# Altium footprint library Footprints.PcbLib: 8 footprints
Each footprint in its own frame and in the unit in brackets; x right, y up, seen from the top. Pads: shape width x height; smd on the part's side, far side on the other; paste and mask are expansions set on the pad; w line width, h text height; cw(c..) or ccw(c..) is an arc to the next point about the centre after c.
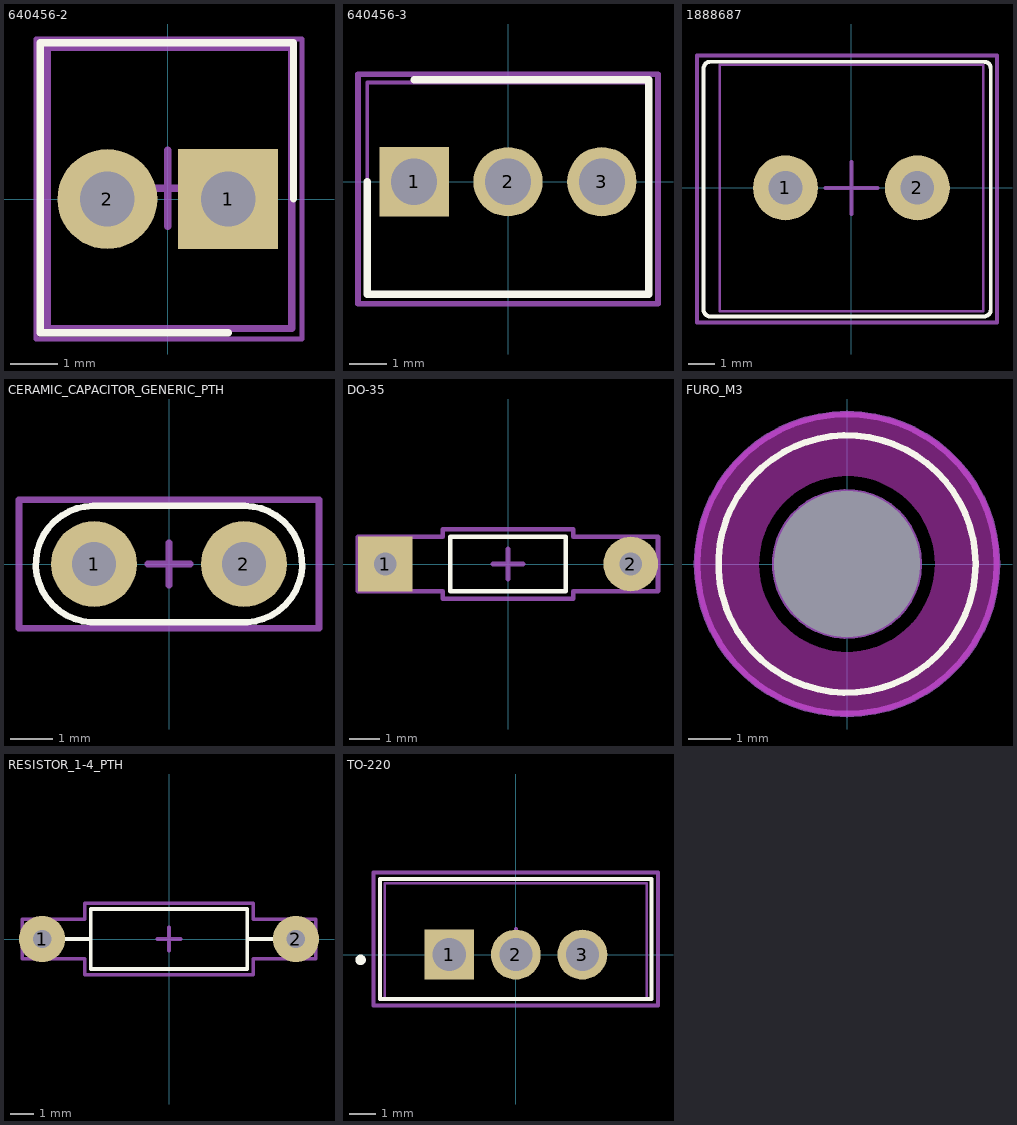
[diagram p0: the footprints below, top view; thin cyan lines are the x and y axes]

## 640456-2 [mm]
pads (2):
  rect 2.1x2.1 hole 1.15: 1(1.27,0)
  round 2.1 hole 1.15: 2(-1.27,0)
Top Overlay:
  lines w0.152: 1.27,-2.812 -2.682,-2.812 -2.682,3.287 2.642,3.287 2.642,0
Top Assembly:
  lines w0.1: -2.768,-2.943 2.821,-2.943 2.821,3.365 -2.768,3.365 -2.768,-2.943
  text ".Designator" at -2.25,0 h1
Top Courtyard (Mech15):
  lines w0.152: -2.535,-2.725 2.607,-2.725 2.607,3.191 -2.535,3.191 -2.535,-2.725
Top Component Center:
  lines w0.152: -0.804,0.226 0.002,0.226 ; 0.002,-0.579 0.002,0.226 ; 0.002,1.032 0.002,0.226 ; 0.808,0.226 0.002,0.226
3D body "640456-2 v1.step": height 10.05, standoff -3.54, extent -2.54,-2.667 2.54,3.175

## 640456-3 [mm]
pads (3):
  rect 1.875x1.875 hole 1.25: 1(-2.54,0)
  round 1.875 hole 1.25: 2(0,0) 3(2.54,0)
Top Overlay:
  lines w0.2: -3.81,0 -3.81,-3.048 3.81,-3.048 3.81,2.76 -2.54,2.76
Top Assembly:
  lines w0.1: -3.81,-3.048 3.81,-3.048 3.81,2.687 -3.81,2.687 -3.81,-3.048
  text ".Designator" at -2.252,-0.546 h1
Top Courtyard (Mech15):
  lines w0.152: -4.06,-3.298 -4.06,2.906 4.06,2.906 4.06,-3.298 -4.06,-3.298
Top Component Center:
  lines w0.152: -0.5,-0.32 0.5,-0.32 ; 0,-0.82 0,0.18
3D body "640456-3 v1.step": height 10.07, standoff -3.52, extent -3.81,-3.175 3.81,2.667

## 1888687 [mm]
pads (2):
  round 2.5 hole 1.3: 1(-2.54,0) 2(2.54,0)
Top Overlay:
  lines w0.152: -5.693,-4.698 ccw(c-5.439,-4.698) -5.439,-4.952 5.115,-4.952 ccw(c5.115,-4.698) 5.369,-4.698 5.369,4.605 ccw(c5.115,4.605) 5.115,4.859 -5.439,4.859 ccw(c-5.439,4.605) -5.693,4.605 -5.693,-4.698
Top Assembly:
  lines w0.1: -5.08,-4.75 5.08,-4.75 5.08,4.75 -5.08,4.75 -5.08,-4.75
  text ".Designator" at -2.252,-0.226 h1
Top Courtyard (Mech15):
  lines w0.152: -5.949,-5.191 5.609,-5.191 5.609,5.102 -5.949,5.102 -5.949,-5.191
Top Component Center:
  lines w0.152: -1,0 1,0 ; 0,-1 0,1
3D body "pxc_1888687_03_02_MKDSN-2-5-2-5-08_3D.stp": height 15.01, standoff -3.49, extent -5.655,-4.75 5.325,4.78

## CERAMIC_CAPACITOR_GENERIC_PTH [mm]
pads (2):
  round 2 hole 1.02: 1(-1.75,0) 2(1.75,0)
Top Overlay:
  lines w0.152: -1.822,-1.356 cw(c-1.75,0) -1.767,1.358 1.767,1.358 cw(c1.75,0) 1.822,-1.356 -1.822,-1.356
Top Assembly:
  lines w0.1: -1.822,-1.356 cw(c-1.75,0) -1.767,1.358 1.767,1.358 cw(c1.75,0) 1.822,-1.356 -1.822,-1.356
  text ".Designator" at -2.252,-0.226 h1
Top Courtyard (Mech15):
  lines w0.152: -3.5,-1.5 3.5,-1.5 3.5,1.5 -3.5,1.5 -3.5,-1.5
Top Component Center:
  lines w0.152: -0.5,0 0.5,0 ; 0,0 0,-0.5 0,0.5
3D body "10nF capacitor ceramico v4.step": height 6.49, standoff -3, extent -2.475,-1 2.474,1

## DO-35 [mm]
pads (2):
  rect 1.8x1.8 hole 0.75: 1(-4.05,0)
  round 1.8 hole 0.75: 2(4.05,0)
Top Overlay:
  lines w0.152: -1.9,-0.9 -1.9,0.9 1.9,0.9 1.9,-0.9 -1.9,-0.9
Top Assembly:
  lines w0.1: -4.95,-0.9 -2.15,-0.9 -2.15,-1.15 2.15,-1.15 2.15,-0.9 4.95,-0.9 4.95,0.9 2.15,0.9 2.15,1.15 -2.15,1.15 -2.15,0.9 -4.95,0.9 -4.95,-0.9
  text ".Designator" at -2.252,-0.226 h1
Top Courtyard (Mech15):
  lines w0.152: -4.95,-0.9 -2.15,-0.9 -2.15,-1.15 2.15,-1.15 2.15,-0.9 4.95,-0.9 4.95,0.9 2.15,0.9 2.15,1.15 -2.15,1.15 -2.15,0.9 -4.95,0.9 -4.95,-0.9
Top Component Center:
  lines w0.152: -0.5,0 0.5,0 ; 0,-0.5 0,0.5
3D body "DO-35 v1.step": height 2.05, standoff -2.63, extent -4.302,-0.993 4.302,0.993

## FURO_M3 [mm]
pads (1):
  round 0 hole 3.4 unplated mask+0.1: 4(0,0)
Top Layer keep-out:
  lines w1.5: 2.64,-0.932 cw(c0,0) 2.679,-0.815
Top Overlay:
  circle w0.152: c0,0 r3
Top Assembly:
  circle w0.1: c0,0 r1.7
  text ".Designator" at -2.252,-0.226 h1
Top Courtyard (Mech15):
  circle w0.152: c0,0 r3.5
Top Component Center:
  lines w0.152: -0.5,0 0.5,0 ; 0,-0.5 0,0.5

## RESISTOR_1-4_PTH [mm]
pads (2):
  round 2 hole 0.8: 1(-5.5,0) 2(5.5,0)
Top Overlay:
  lines w0.152: -4.58,0 -3.4,0 ; 4.58,0 3.4,0 ; -3.4,0 -3.4,1.3 3.4,1.3 3.4,0 ; -3.4,0 -3.4,-1.3 3.4,-1.3 3.4,0
Top Assembly:
  lines w0.1: -4.9,0 -3.4,0 ; 4.9,0 3.4,0 ; -3.4,0 -3.4,1.3 3.4,1.3 3.4,0 ; -3.4,0 -3.4,-1.3 3.4,-1.3 3.4,0
  text ".Designator" at -2.252,-0.226 h1
Top Courtyard (Mech15):
  lines w0.152: -6.35,-0.85 -3.65,-0.85 -3.65,-1.55 3.65,-1.55 3.65,-0.85 6.35,-0.85 6.35,0.85 3.65,0.85 3.65,1.55 -3.65,1.55 -3.65,0.85 -6.35,0.85 -6.35,-0.85
Top Component Center:
  lines w0.152: -0.5,0 0.5,0 0,0 ; 0,-0.5 0,0 ; 0,0.5 0,0
3D body "1-4-PTH v1.step": height 2.52, standoff -4.22, extent -5.775,-1.2 5.775,1.2

## TO-220 [mm]
pads (3):
  rect 1.91x1.91 hole 1.27: 1(-2.55,0)
  round 1.91 hole 1.27: 2(0,0) 3(2.55,0)
Top Overlay:
  circle w0.2: c-5.95,-0.2 r0.1
  lines w0.152: -5.2,-1.7 -5.2,2.9 5.2,2.9 5.2,-1.7 -5.2,-1.7
Top Assembly:
  lines w0.1: -5.022,-1.7 5.026,-1.7 5.026,2.734 -5.022,2.734 -5.022,-1.7
  text ".Designator" at -2.252,0.249 h1
Top Courtyard (Mech15):
  lines w0.152: -5.45,-1.95 5.45,-1.95 5.45,3.15 -5.45,3.15 -5.45,-1.95
Top Component Center:
  lines w0.152: -0.5,0.475 0.5,0.475 ; 0,-0.025 0,0.975
3D body "TO-220 v1.step": height 19.3, standoff -2.2, extent -4.99,-1.725 5.01,2.675